# Altium schematic symbol library Interfaces RS422.SchLib: 2 symbols
Pins are listed as number, name and electrical type; pins without a type are passive.

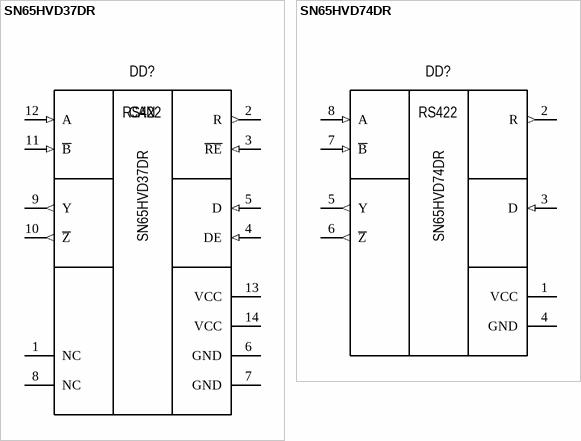
[diagram p0: symbols SN65HVD37DR to SN65HVD74DR]

## SN65HVD37DR
designator DD?
Interface RS422/RS485 Transciever SOIC-14; Manufacturer: Texas Instruments; Voltage supply: 3.0V - 3.6V; Component: RS422; Data rate: 20Mbps; Duplex: Full; Package: SOIC-14; Group: Interface; Part name: SN65HVD37DR; Operating temperature: -40°C +85°C; Height: 1.75mm; Dimension: 8.75mm x 6.20mm; Mounting type: Surface mount; Interface type: RS422/RS485
footprint SOIC-14N
pins: 1 NC "No internal connection", 2 R (out) "Receive data output", 3 ~{RE} (in) "Receive enable", 4 DE (in) "Driver enable", 5 D (in) "Driver data input", 6 GND "Ground", 7 GND "Ground", 8 NC "No internal connection", 9 Y (out) "Digital bus output", 10 ~{Z} (out) "Digital bus output", 11 ~{B} (in) "Digital bus input", 12 A (in) "Digital bus input", 13 VCC "Supply", 14 VCC "Supply"
text: CAN

## SN65HVD74DR
designator DD?
Interface RS422 Transciever  SOIC-8; Manufacturer: Texas Instruments; Voltage supply: 3.0V - 3.6V; Component: RS485; Data rate: 20Mbps; Duplex: Full; Package: SOIC-8; Group: Interface; Part name: SN65HVD74DR; Operating temperature: -40°C +125°C; Height: 1.10mm; Dimension: 5.05mm x 3.10mm; Mounting type: Surface mount; Interface type: RS485
footprint SOIC-8N
pins: 1 VCC "Supply", 2 R (out) "Receive data output", 3 D (in) "Driver data input", 4 GND "Ground", 5 Y (out) "Digital bus output", 6 ~{Z} (out) "Digital bus output", 7 ~{B} (in) "Digital bus input", 8 A (in) "Digital bus input"
text: RS422